# EAGLE library part DF12B(*)-14DS-0.5V (library hirose-df12)
0.5mm Pitch SMT Board to Board Connector Source: http://www.hirose.co.jp/catalogj_hp/jd_DF12_20131205.pdf http://www.hirose.co.jp/cataloge_hp/en_DF12_20130411.pdf
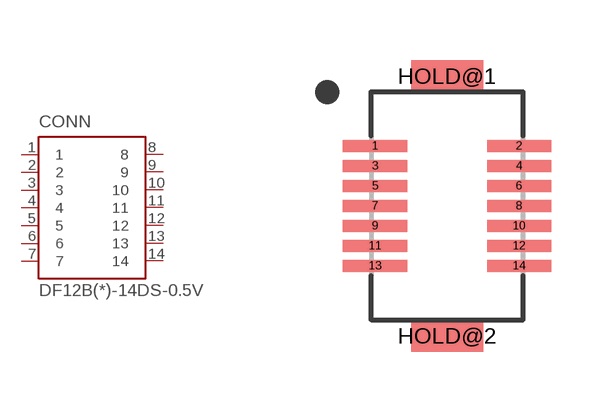
[diagram p61: symbol with the pads of DF12B(*)-14DS-0.5V; footprint DF12B(*)-14DS-0.5V]

Designator prefix CONN

## DF12B(3.0)-14DS-0.5V  [DF12B(*)-14DS-0.5V]
1  1
2  2
3  3
4  4
5  5
6  6
7  7
8  8
9  9
10  10
11  11
12  12
13  13
14  14

## Footprint DF12B(*)-14DS-0.5V (pad centres in mm)
smd 1.6 x 0.3: 1 -1.8,1.5; 2 1.8,1.5; 3 -1.8,1; 4 1.8,1; 5 -1.8,0.5; 6 1.8,0.5; 7 -1.8,0; 8 1.8,0; 9 -1.8,-0.5; 10 1.8,-0.5; 11 -1.8,-1; 12 1.8,-1; 13 -1.8,-1.5; 14 1.8,-1.5
smd 1.8 x 0.8: HOLD@1 0,3.25; HOLD@2 0,-3.25